# Altium footprint library RMCF0402FT10K0.PcbLib: 1 footprints
Each footprint in its own frame and in the unit in brackets; x right, y up, seen from the top. Pads: shape width x height; smd on the part's side, far side on the other; paste and mask are expansions set on the pad; w line width, h text height; cw(c..) or ccw(c..) is an arc to the next point about the centre after c.
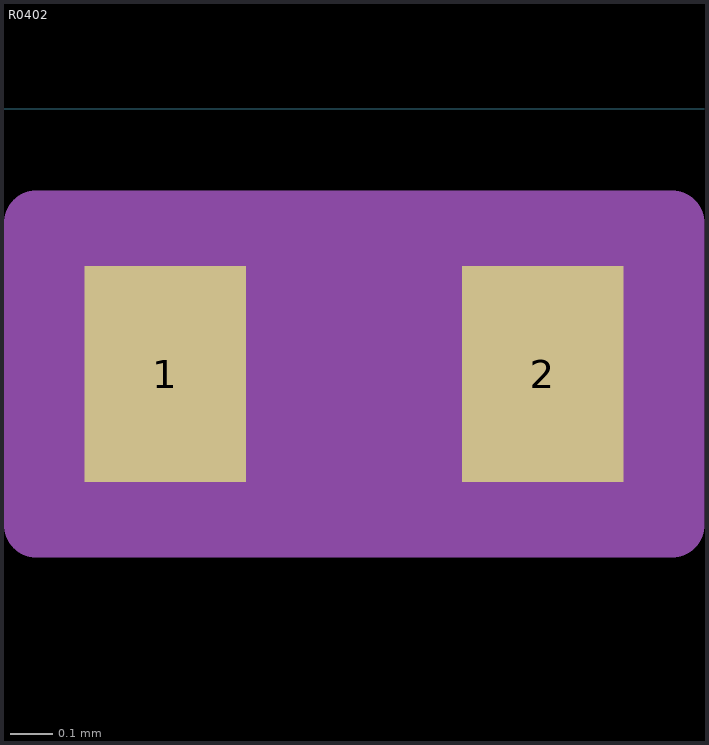
[diagram p0: the footprint, top view; thin cyan lines are the x and y axes]

## R0402 [mil]
pads (2):
  rect 15x20 smd paste+0 mask+0: 1(119.31,-24.61) 2(154.31,-24.61)
Mechanical 13:
  lines w1: 115.31,-35.61 115.31,-13.61 ; 115.31,-35.61 131.31,-35.61 131.31,-13.61 115.31,-13.61 ; 115.31,-35.61 158.31,-35.61 ; 115.31,-35.61 115.31,-13.61 ; 115.31,-13.61 158.31,-13.61 ; 158.31,-35.61 142.31,-35.61 142.31,-13.61 158.31,-13.61 ; 158.31,-35.61 158.31,-13.61 ; 158.31,-35.61 158.31,-13.61
Mechanical 15:
  region: 166.31,-38.61 107.31,-38.61 107.31,-10.61 166.31,-10.61
  lines w6: 107.31,-38.61 107.31,-10.61 166.31,-10.61 166.31,-38.61 107.31,-38.61
3D body "STA_RMCF0402_STP.step": height 15.98, standoff 0, extent 115.31,-35.59 158.31,-13.62